# Altium footprint library PCBLib.PcbLib: 6 footprints
Each footprint in its own frame and in the unit in brackets; x right, y up, seen from the top. Pads: shape width x height; smd on the part's side, far side on the other; paste and mask are expansions set on the pad; w line width, h text height; cw(c..) or ccw(c..) is an arc to the next point about the centre after c.
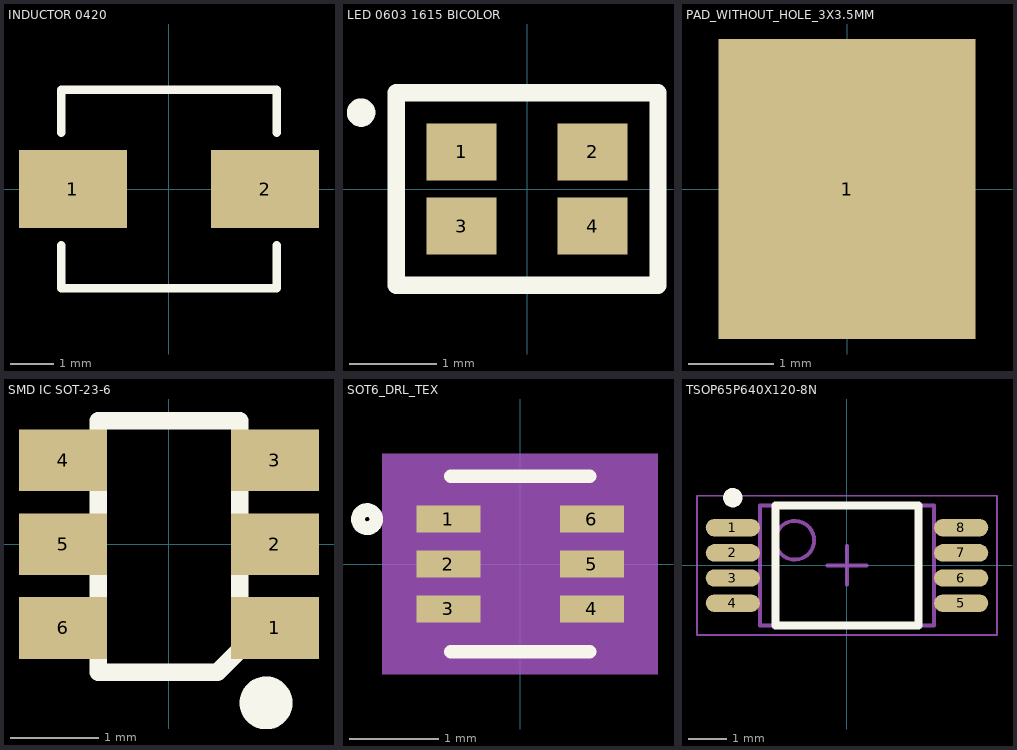
[diagram p0: the footprints below, top view; thin cyan lines are the x and y axes]

## INDUCTOR 0420 [mm] "SMD 0420 Power Inductor Integrated inductor"
height 2
pads (2):
  rect 2.5x1.8 smd: 1(-2.225,0) 2(2.225,0)
Top Overlay:
  lines w0.2: -2.5,-1.3 -2.5,-2.3 2.5,-2.3 2.5,-1.3 ; -2.5,1.3 -2.5,2.3 2.5,2.3 2.5,1.3

## LED 0603 1615 BICOLOR [mm] "SMD SMT Light Emitting Diode 1.6*0.8*0.6MM"
height 0.6
pads (4):
  rect 0.8x0.65 smd mask+0.05: 1(-0.75,0.425) 2(0.75,0.425) 3(-0.75,-0.425) 4(0.75,-0.425)
Top Overlay:
  circle w0.254: c-1.9,0.875 r0.035
  lines w0.2: -1.5,-1.1 1.5,-1.1 1.5,1.1 -1.5,1.1 -1.5,-1.1

## PAD_WITHOUT_HOLE_3X3.5MM [mm]
pads (1):
  rect 3x3.5 smd: 1(0,0)

## SMD IC SOT-23-6 [mm] "SOT-223/SC-73; 4 Leads; Body 6.7 x 7.3 mm, inc. leads (LxW max)"
height 1.8
pads (6):
  rect 1x0.7 smd: 1(1.2,-0.95) 2(1.2,0) 3(1.2,0.95) 4(-1.2,0.95) 5(-1.2,0) 6(-1.2,-0.95)
Top Overlay:
  circle w0.4: c1.1,-1.8 r0.1
  lines w0.2: -0.8,-1.45 -0.8,1.4 0.8,1.4 0.8,-1.2 0.55,-1.45 -0.8,-1.45
3D body "User Library-SOT23-6-2.step": height 1.45, standoff 0, extent -1.4,-1.45 1.4,1.45

## SOT6_DRL_TEX [mil]
pads (6):
  rect 28x11.81 smd paste+0 mask+1.97: 1(-31.5,19.69) 2(-31.5,0) 3(-31.5,-19.69) 4(31.5,-19.69) 5(31.5,0) 6(31.5,19.69)
Top Overlay:
  circle w6: c-67.19,19.69 r4
  lines w6: -30.5,-38.5 30.5,-38.5 ; -30.5,38.5 30.5,38.5
Bottom 3D Body:
  region: 60.5,-48.5 -60.5,-48.5 -60.5,48.5 60.5,48.5
Top 3D Body (Mech13):
  circle w0: c-17.5,19.69 r3
  lines w0: -12,33.5 ccw(c0,33.5) 12,33.5
  lines w1: -25.5,-33.5 -25.5,33.5 25.5,33.5 25.5,-33.5 -25.5,-33.5
Top Courtyard:
  region: -35.5,-34.19 -55.5,-34.19 -55.5,34.19 -35.5,34.19 -35.5,43.5 35.5,43.5 35.5,34.19 55.5,34.19 55.5,-34.19 35.5,-34.19 35.5,-43.5 -35.5,-43.5
  lines w6: -55.5,-34.19 -35.5,-34.19 -35.5,-43.5 35.5,-43.5 35.5,-34.19 55.5,-34.19 55.5,34.19 35.5,34.19 35.5,43.5 -35.5,43.5 -35.5,34.19 -55.5,34.19 -55.5,-34.19
3D body "SOT6_DRL_TEX.step": height 24.09, standoff 0, extent -33.5,-33.5 33.5,33.5

## TSOP65P640X120-8N [mm] "TSOP, 8-Leads, Body 3,00x4,40mm, Pitch 0,65mm, IPC Medium Density"
height 1.2
pads (8):
  oval 1.4x0.45 smd: 1(-2.95,0.975) 2(-2.95,0.325) 3(-2.95,-0.325) 4(-2.95,-0.975) 5(2.95,-0.975) 6(2.95,-0.325) 7(2.95,0.325) 8(2.95,0.975)
Top Overlay:
  circle w0.25: c-2.95,1.75 r0.125
  lines w0.2: -1.85,-1.55 1.85,-1.55 1.85,1.55 -1.85,1.55 -1.85,-1.55
Top Assembly:
  circle w0.1: c-1.35,0.65 r0.5
  lines w0.1: -2.25,-1.55 2.25,-1.55 2.25,1.55 -2.25,1.55 -2.25,-1.55
Top Courtyard:
  lines w0.05: -3.875,-1.8 3.875,-1.8 3.875,1.8 -3.875,1.8 -3.875,-1.8
  lines w0.1: -0.5,0 0.5,0 ; 0,-0.5 0,0.5
3D body "TSOP65P640X120-8N.step": height 1.2, standoff 0, extent -3.2,-1.55 3.2,1.55